# Altium schematic symbol library MAX_MAX15053EWL.SchLib: 1 symbol
Pins are listed as number, name and electrical type; pins without a type are passive.

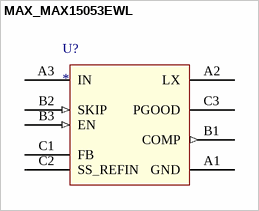
[diagram p0: symbol MAX_MAX15053EWL]

## MAX_MAX15053EWL
designator U?
pins: A1 GND (power), A2 LX (power), A3 IN (power), B1 COMP (out), B2 SKIP (in), B3 EN (in), C1 FB (power), C2 SS_REFIN (power), C3 PGOOD